# Altium schematic symbol library Gravix-IC.SchLib: 10 symbols
Pins are listed as number, name and electrical type; pins without a type are passive.

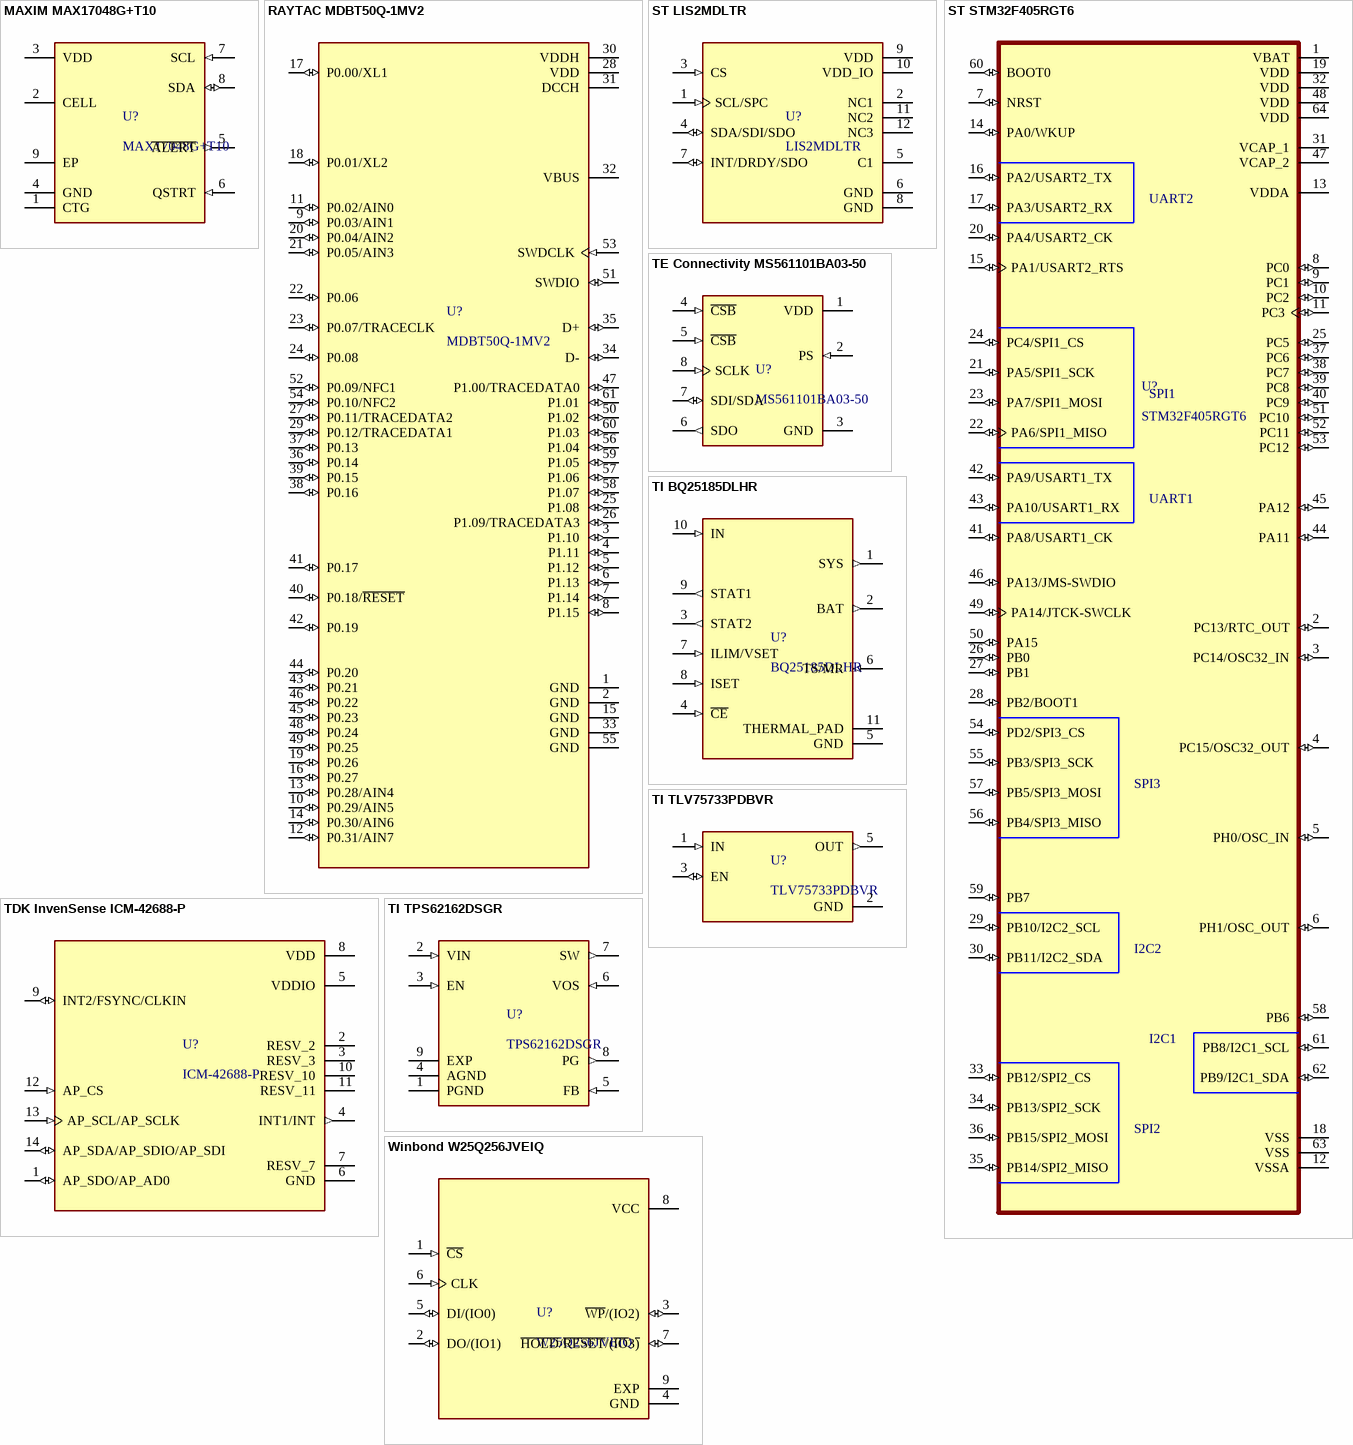
[diagram p0: symbols MAXIM MAX17048G+T10 to Winbond W25Q256JVEIQ]

## MAXIM MAX17048G+T10
designator U?, comment MAX17048G+T10
Lithium Battery I2C DFN-8-EP(2x2) Battery Management RoHS; Manufacturer: MAXIM; Manufacturer Part Number: MAX17048G+T10; LCSC Part Number: C2682616; Package: DFN-8-EP(2x2); Mounting Type: SMD; ComponentLink2Description: Digikey Link; ComponentLink3Description: LCSC Link; ComponentLink3URL: https://www.lcsc.com/product-detail/C2682616.html?s_z=n_q_C2682616
footprint MAX17048G+T10_TDFN-8
pins: 1 CTG (power), 2 CELL (power), 3 VDD (power), 4 GND (power), 5 ~{ALERT} (out), 6 QSTRT (in), 7 SCL (in), 8 SDA (io), 9 EP (power)

## RAYTAC MDBT50Q-1MV2
designator U?, comment MDBT50Q-1MV2
SMD-61P RF Transceiver Modules and Modems RoHS; Manufacturer: RAYTAC; Manufacturer Part Number: MDBT50Q-1MV2; LCSC Part Number: C5118826; Package: SMD-61P; Mounting Type: SMD; ComponentLink2Description: Digikey Link; ComponentLink3Description: LCSC Link; ComponentLink3URL: https://www.lcsc.com/product-detail/C5118826.html?s_z=n_q_MDBT50Q-1MV2&spm=wm.ssy.bg.0.xh&lcsc_vid=QlAIX1RQQQJfX1VRTwcNAQJXTlRaUQBVEQBYAwJfFFcxVlNRQFhZUlxfQlRcXzsOAxUeFF5JWBYZEEoKFBINSQcJGk4eFQsCAgIaSgADAwAHC0slRlRZU1ZIHxUDCw%3D%3D
footprint MDBT50Q-1MV2_SMD-61
pins: 1 GND (power), 2 GND (power), 3 P1.10 (io), 4 P1.11 (io), 5 P1.12 (io), 6 P1.13 (io), 7 P1.14 (io), 8 P1.15 (io), 9 P0.03/AIN1 (io), 10 P0.29/AIN5 (io), 11 P0.02/AIN0 (io), 12 P0.31/AIN7 (io), 13 P0.28/AIN4 (io), 14 P0.30/AIN6 (io), 15 GND (power), 16 P0.27 (io), 17 P0.00/XL1 (io), 18 P0.01/XL2 (io), 19 P0.26 (io), 20 P0.04/AIN2 (io), 21 P0.05/AIN3 (io), 22 P0.06 (io), 23 P0.07/TRACECLK (io), 24 P0.08 (io), 25 P1.08 (io), 26 P1.09/TRACEDATA3 (io), 27 P0.11/TRACEDATA2 (io), 28 VDD (power), 29 P0.12/TRACEDATA1 (io), 30 VDDH (power), 31 DCCH (power), 32 VBUS (power), 33 GND (power), 34 D- (io), 35 D+ (io), 36 P0.14 (io), 37 P0.13 (io), 38 P0.16 (io), 39 P0.15 (io), 40 P0.18/~{RESET} (io), 41 P0.17 (io), 42 P0.19 (io), 43 P0.21 (io), 44 P0.20 (io), 45 P0.23 (io), 46 P0.22 (io), 47 P1.00/TRACEDATA0 (io), 48 P0.24 (io), 49 P0.25 (io), 50 P1.02 (io), 51 SWDIO (io), 52 P0.09/NFC1 (io), 53 SWDCLK (in), 54 P0.10/NFC2 (io), 55 GND (power), 56 P1.04 (io), 57 P1.06 (io), 58 P1.07 (io), 59 P1.05 (io), 60 P1.03 (io), 61 P1.01 (io)

## ST LIS2MDLTR
designator U?, comment LIS2MDLTR
Digital output magnetic sensor: ultra-low-power, high-performance 3-axis magnetometer; Manufacturer: ST; Manufacturer Part Number: LIS2MDLTR; LCSC Part Number: C919695; Package: LGA-12(2x2); Mounting Type: SMD; ComponentLink2Description: Digikey Link; ComponentLink3Description: LCSC Link; ComponentLink3URL: https://www.lcsc.com/product-detail/C919695.html?s_z=n_q_C919695
footprint LIS2MDLTR_LGA-12(2x2)
pins: 1 SCL/SPC (in), 2 NC1, 3 CS (in), 4 SDA/SDI/SDO (io), 5 C1, 6 GND (power), 7 INT/DRDY/SDO (io), 8 GND (power), 9 VDD (power), 10 VDD_IO (power), 11 NC2, 12 NC3

## ST STM32F405RGT6
designator U?, comment STM32F405RGT6
ARM Cortex-M4 32b MCU+FPU, 210DMIPS, up to 1MB Flash/192+4KB RAM, USB OTG HS/FS, Ethernet, 17 TIMs, 3 ADCs, 15 comm. interfaces & camera; Manufacturer: ST; Manufacturer Part Number: STM32F405RGT6; LCSC Part Number: C15742; Package: LQFP-64(10x10); Mounting Type: SMD; ComponentLink2Description: Digikey Link; ComponentLink3Description: LCSC Link; ComponentLink3URL: https://www.lcsc.com/product-detail/C15742.html?s_z=n_q_STM32F405RGT6&spm=wm.ssy.bg.0.xh&lcsc_vid=QlAIX1RQQQJfX1VRTwcNAQJXTlRaUQBVEQBYAwJfFFcxVlNRQFhZVVBQQ1RcXjsOAxUeFF5JWBYZEEoKFBINSQcJGk4NBhADEA4cHktXRlVcSQwSGg0%3D
footprint STM32F405RGT6_LQFP-64
pins: 1 VBAT (power), 2 PC13/RTC_OUT (io), 3 PC14/OSC32_IN (io), 4 PC15/OSC32_OUT (io), 5 PH0/OSC_IN (io), 6 PH1/OSC_OUT (io), 7 NRST (io), 8 PC0 (io), 9 PC1 (io), 10 PC2 (io), 11 PC3 (io), 12 VSSA (power), 13 VDDA (power), 14 PA0/WKUP (io), 15 PA1/USART2_RTS (io), 16 PA2/USART2_TX (io), 17 PA3/USART2_RX (io), 18 VSS (power), 19 VDD (power), 20 PA4/USART2_CK (io), 21 PA5/SPI1_SCK (io), 22 PA6/SPI1_MISO (io), 23 PA7/SPI1_MOSI (io), 24 PC4/SPI1_CS (io), 25 PC5 (io), 26 PB0 (io), 27 PB1 (io), 28 PB2/BOOT1 (io), 29 PB10/I2C2_SCL (io), 30 PB11/I2C2_SDA (io), 31 VCAP_1 (power), 32 VDD (power), 33 PB12/SPI2_CS (io), 34 PB13/SPI2_SCK (io), 35 PB14/SPI2_MISO (io), 36 PB15/SPI2_MOSI (io), 37 PC6 (io), 38 PC7 (io), 39 PC8 (io), 40 PC9 (io), 41 PA8/USART1_CK (io), 42 PA9/USART1_TX (io), 43 PA10/USART1_RX (io), 44 PA11 (io), 45 PA12 (io), 46 PA13/JMS-SWDIO (io), 47 VCAP_2 (power), 48 VDD (power), 49 PA14/JTCK-SWCLK (io), 50 PA15 (io), 51 PC10 (io), 52 PC11 (io), 53 PC12 (io), 54 PD2/SPI3_CS (io), 55 PB3/SPI3_SCK (io), 56 PB4/SPI3_MISO (io), 57 PB5/SPI3_MOSI (io), 58 PB6 (io), 59 PB7 (io), 60 BOOT0 (io), 61 PB8/I2C1_SCL (io), 62 PB9/I2C1_SDA (io), 63 VSS (power), 64 VDD (power)
text: UART2; SPI1; UART1; SPI3; I2C2; I2C1; SPI2

## TDK InvenSense ICM-42688-P
designator U?, comment ICM-42688-P
LGA-14(2.5x3) IMUs (Inertial Measurement Units) RoHS; Manufacturer: TDK InvenSense; Manufacturer Part Number: ICM-42688-P; LCSC Part Number: C1850418; Package: LGA-14(2.5x3); Mounting Type: SMD; ComponentLink2Description: Digikey Link; ComponentLink3Description: LCSC Link; ComponentLink3URL: https://www.lcsc.com/product-detail/C1850418.html?s_z=n_q_C1850418%2520&spm=wm.ssy.bg.0.xh&lcsc_vid=QlAIX1RQQQJfX1VRTwcNAQJXTlRaUQBVEQBYAwJfFFcxVlNRT1FaXlVVTlFdUDsOAxUeFF5JWBYZEEoKFBINSQcJGk4eFQsCAgIaSgADAwAHC0slTlZbVVZIHxUDCw%3D%3D
footprint ICM-42688-P_LGA-14(2.5x3)
pins: 1 AP_SDO/AP_AD0 (io), 2 RESV_2, 3 RESV_3, 4 INT1/INT (out), 5 VDDIO (power), 6 GND (power), 7 RESV_7, 8 VDD (power), 9 INT2/FSYNC/CLKIN (io), 10 RESV_10, 11 RESV_11, 12 AP_CS (in), 13 AP_SCL/AP_SCLK (in), 14 AP_SDA/AP_SDIO/AP_SDI (io)

## TE Connectivity MS561101BA03-50
designator U?, comment MS561101BA03-50
1Kpa~1.2bar QFN-8(3x5) Pressure Sensors, Transducers RoHS; Manufacturer: TE Connectivity; Manufacturer Part Number: MS561101BA03-50; LCSC Part Number: C15639; Package: QFN-8(3x5); Mounting Type: SMD; ComponentLink2Description: Digikey Link; ComponentLink3Description: LCSC Link; ComponentLink3URL: https://www.lcsc.com/product-detail/C15639.html?s_z=n_q_C15639
footprint MS561101BA03-50_QFN-8(3x5)
pins: 1 VDD (power), 2 PS (in), 3 GND (power), 4 ~{CSB} (in), 5 ~{CSB} (in), 6 SDO (out), 7 SDI/SDA (io), 8 SCLK (in)

## TI BQ25185DLHR
designator U?, comment BQ25185DLHR
1-Cell, 1-A Standalone Linear Battery Charger with PowerPath, Factory Mode, and Battery Tracking VINDPM; Manufacturer: TI; Manufacturer Part Number: BQ25185DLHR; LCSC Part Number: C19725033; Package: WSON-10-EP(2.2x2); Mounting Type: SMD; ComponentLink2Description: Digikey Link; ComponentLink3Description: LCSC Link; ComponentLink3URL: https://www.lcsc.com/product-detail/C19725033.html?s_z=n_q_C19725033
footprint BQ25185DLHR_WFDFN-10
pins: 1 SYS (out), 2 BAT (out), 3 STAT2 (out), 4 ~{CE} (in), 5 GND (power), 6 TS/MR (in), 7 ILIM/VSET (in), 8 ISET (in), 9 STAT1 (out), 10 IN (in), 11 THERMAL_PAD

## TI TLV75733PDBVR
designator U?, comment TLV75733PDBVR
3.3V Positive Fixed SOT-23-5 Voltage Regulators - Linear, Low Drop Out (LDO) Regulators RoHS; Manufacturer: TI; Manufacturer Part Number: TLV75733PDBVR; LCSC Part Number: C485517; Package: SOT-23-5; Mounting Type: SMD; ComponentLink2Description: Digikey Link; ComponentLink3Description: LCSC Link; ComponentLink3URL: https://www.lcsc.com/product-detail/C485517.html?spm=wm.fly.bg.0.xh&lcsc_vid=QlAIX1RQQQJfX1VRTwcNAQJXTlRaUQBVEQBYAwJfFFcxVlNRT1FbV1FfR1JZUDsOAxUeFF5JWBYZEEoKFBINSQcJGk4dAgUUFAk%3D
footprint TLV75733PDBVR_SOT-23-5
pins: 1 IN (in), 2 GND (power), 3 EN (io), 5 OUT (out)

## TI TPS62162DSGR
designator U?, comment TPS62162DSGR
2.25MHz Step-down type Fixed 3.3V 1A WSON-8-EP(2x2) Voltage Regulators - DC DC Switching Regulators RoHS; Manufacturer: TI; Manufacturer Part Number: TPS62162DSGR; LCSC Part Number: C40256; Package: WSON-8-EP(2x2); Mounting Type: SMD; ComponentLink2Description: Digikey Link; ComponentLink3Description: LCSC Link; ComponentLink3URL: https://www.lcsc.com/product-detail/C40256.html?s_z=n_q_TPS62162&spm=wm.ssy.bg.0.xh&lcsc_vid=QlAIX1RQQQJfX1VRTwcNAQJXTlRaUQBVEQBYAwJfFFcxVlNRQFhXUFJST1hcUTsOAxUeFF5JWBYZEEoKFBINSQcJGk4%3D
footprint TPS62162DSGR_WSON-8-EP(2x2)
pins: 1 PGND (power), 2 VIN (in), 3 EN (in), 4 AGND (power), 5 FB (in), 6 VOS (in), 7 SW (out), 8 PG (out), 9 EXP

## Winbond W25Q256JVEIQ
designator U?, comment W25Q256JVEIQ
FLASH - NOR Memory IC 256Mbit SPI 133MHz WSON-8-EP(6x8); Manufacturer: Winbond; Manufacturer Part Number: W25Q256JVEIQ; LCSC Part Number: C97522; Package: WSON-8-EP(6x8); Mounting Type: SMD; ComponentLink2Description: Digikey Link; ComponentLink3Description: LCSC Link; ComponentLink3URL: https://www.lcsc.com/product-detail/C97522.html?s_z=n_q_C97522
footprint W25Q256JVEIQ_WSON-8-EP(6x8)
pins: 1 ~{CS} (in), 2 DO/(IO1) (io), 3 ~{WP}/(IO2) (io), 4 GND (power), 5 DI/(IO0) (io), 6 CLK (in), 7 ~{HOLD}/~{RESET}/(~{IO}3~{)} (io), 8 VCC (power), 9 EXP